# Altium integrated library Analog Devices Data Converters Analog-to-Digital Converters.IntLib: 2400 symbols (part 210 of 338)
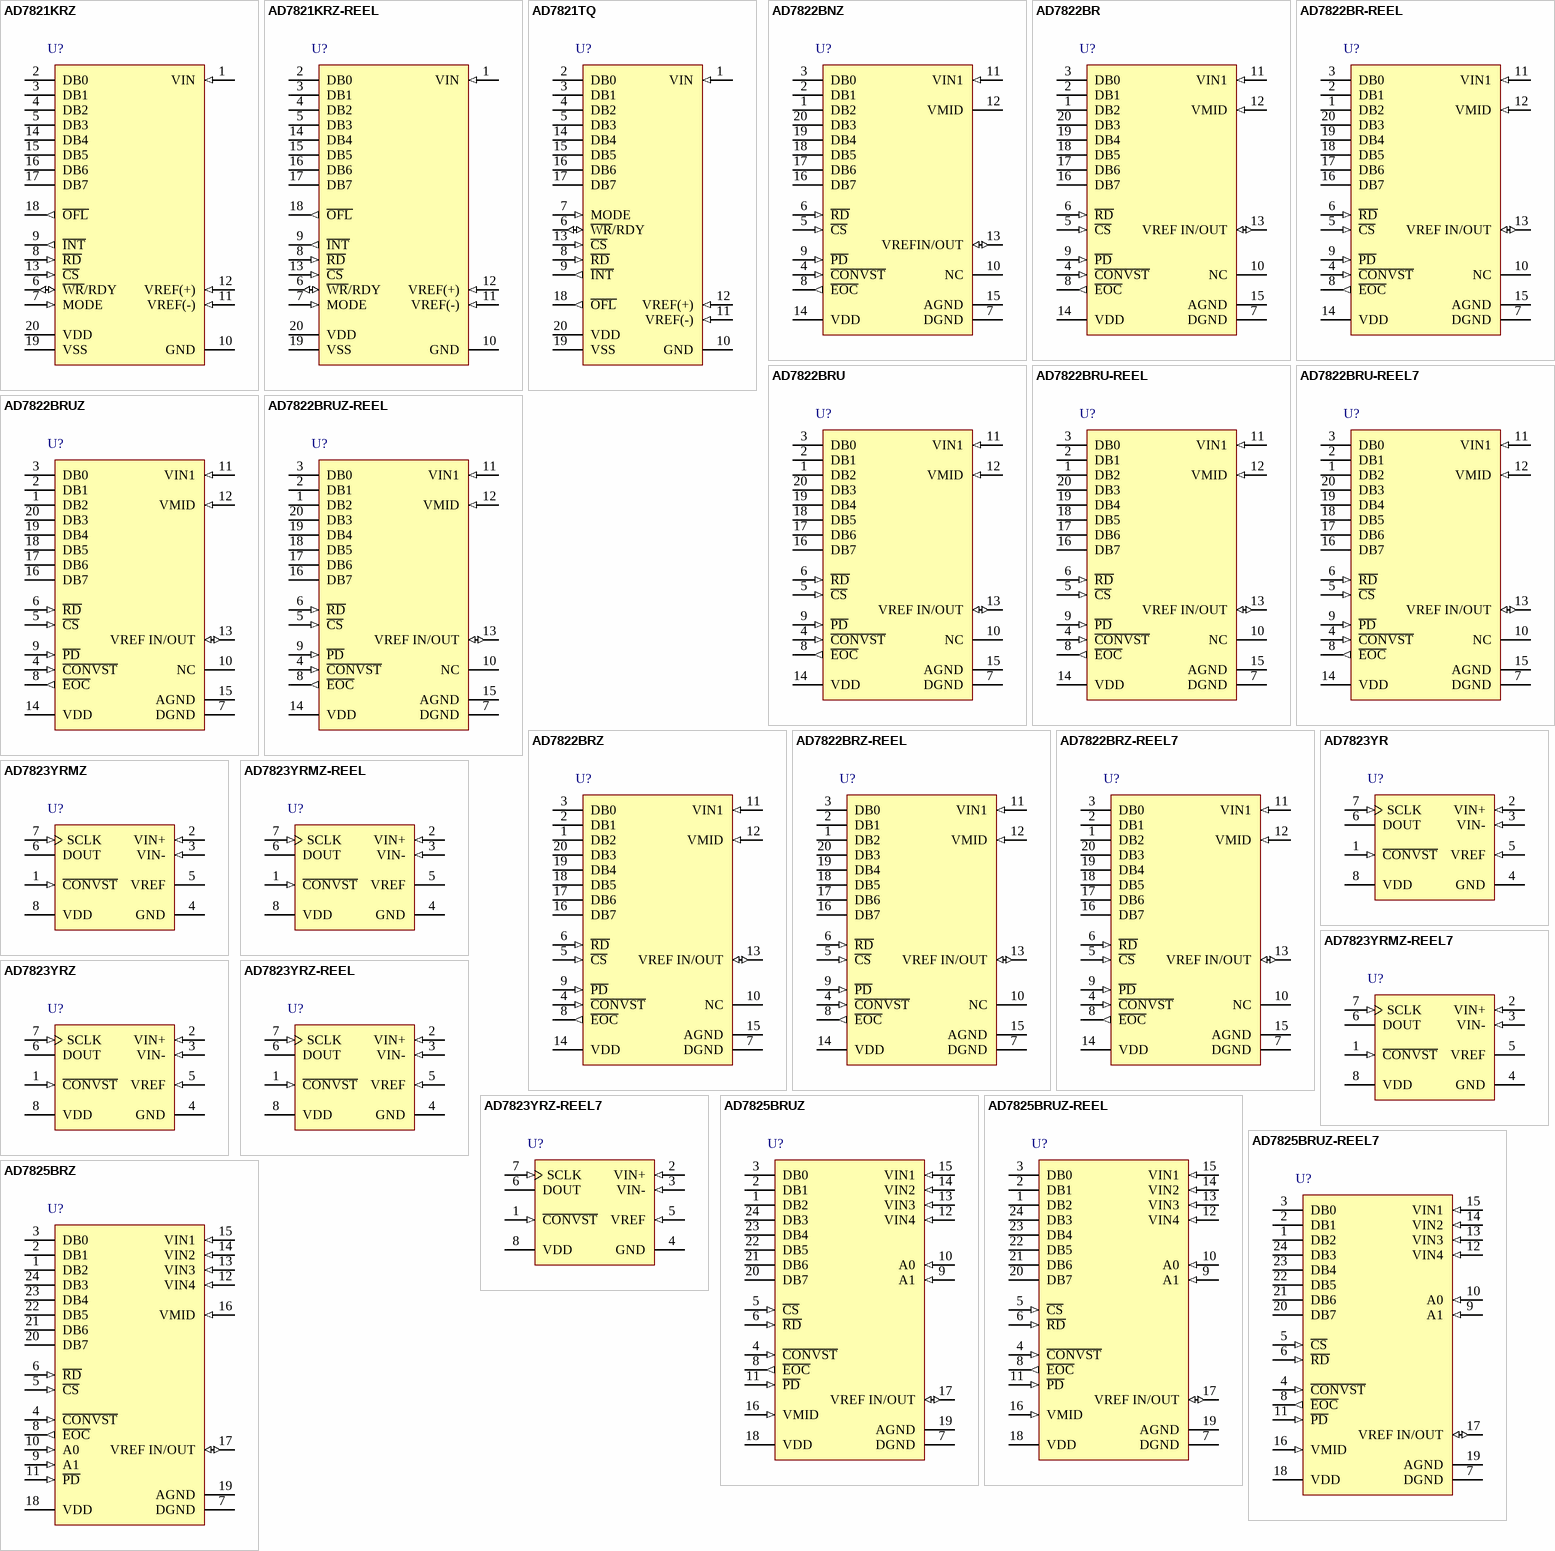
[diagram p370: symbols AD7821KRZ to AD7825BRZ]

## AD7822BRUZ
designator U?
Single 8-Bit Sampling Analog-to-Digital Converter with Parallel Interface, 3 V / 5 V, 2MSPS, -40 to +85 degC, RU-20, Pb-Free, Tube; Part Number: AD7822; Manufacturer: Analog Devices; Resolution (Bits): 8; Channels: 1; Throughput Rate (SPS): 2M; Interface: Par; DatasheetVersion: Rev.C; PackageVersion: 2000; PackageReference: RU-20; PackageDescription: 20-Lead Thin Shrink Small Outline Package [TSSOP]; RoHS: Y; Packing: Tube; Mounting Technology: Surface Mount; Code_JEDEC: MO-153AC; ComponentLink1Description: Manufacturer URL; ComponentLink1URL: http://www.analog.com/en/index.html; ComponentLink2Description: Datasheet; ComponentLink2URL: http://www.analog.com/static/imported-files/data_sheets/AD7822_7825_7829.pdf; ComponentLink3Description: Package Specification; ComponentLink3URL: http://www.analog.com/static/imported-files/packages/364515793657813558433715854054607941441RU20.pdf; ComponentLink4Description: Product URL; ComponentLink4URL: http://www.analog.com/en/analog-to-digital-converters/ad-converters/ad7822/products/product.html
footprint RU-20_N (TSOP, 20-Leads, Body 6.5x4.4mm, Pitch 0.65mm, IPC Medium Density)
footprint RU-20_L (TSOP, 20-Leads, Body 6.5x4.4mm, Pitch 0.65mm, IPC High Density)
footprint RU-20_M (TSOP, 20-Leads, Body 6.5x4.4mm, Pitch 0.65mm, IPC Low Density)
pins: 1 DB2 (hiz) "Data Output Lines. They are normally held in a high impedance state. Data is driven onto the data bus when both R\D\ and C\S\ go active low.", 2 DB1 (hiz) "Data Output Lines. They are normally held in a high impedance state. Data is driven onto the data bus when both R\D\ and C\S\ go active low.", 3 DB0 (hiz) "Data Output Lines. They are normally held in a high impedance state. Data is driven onto the data bus when both R\D\ and C\S\ go active low.", 4 ~{CONVST} (in) "Logic Input Signal. The convert start signal initiates an 8-bit analog-to-digital conversion on the falling edge of this signal. The falling edge of this signal places the track-and-hold in hold mode. The track-and-hold goes (See Datasheet)", 5 ~{CS} (in) "Logic Input Signal. The chip select signal is used to enable the parallel port of the AD7822/AD7825/AD7829. This is necessary if the ADC is sharing a common data bus with another device.", 6 ~{RD} (in) "Logic Input Signal. The read signal is used to take the output buffers out of their high impedance state and drive data onto the data bus. The signal is internally gated with the C\S\ signal. Both R\D\ and C\S\ must be logic (See Datasheet)", 7 DGND (power) "Digital Ground. Ground reference for digital circuitry.", 8 ~{EOC} (out) "Logic Output. The end-of-conversion signal indicates when a conversion has finished. The signal can be used to interrupt a microcontroller when a conversion has finished or latch data into a gate array (see the Parallel (See Datasheet)", 9 ~{PD} (in) "Logic Input. The power-down pin is present on the AD7822 and AD7825 only. Bringing the P\D\ pin low places the AD7822 and AD7825 in power-down mode. The ADCs power up when P\D\ is brought logic high again.", 10 NC "No connected.", 11 VIN1 (in) "Analog Input Channels. The AD7822 has a single input channel; the AD7825 and AD7829 have four and eight analog input channels, respectively. The inputs have an input span of 2.5 V and 2 V depending on the supply voltage (See Datasheet)", 12 VMID (in) "The VMID pin, if connected, is used to center the analog input span anywhere in the range of AGND to VDD (see the Analog Input section).", 13 VREF IN/OUT (io) "Analog Input and Output. An external reference can be connected to the AD7822/AD7825/AD7829 at this pin. The on-chip reference is also available at this pin. When using the internal reference, this pin can be left (See Datasheet)", 14 VDD (power) "Positive Supply Voltage, 3 V +/- 10% and 5 V +/- 10%.", 15 AGND (power) "Analog Ground. Ground reference for track-and-hold, comparators, reference circuit, and multiplexer.", 16 DB7 (hiz) "Data Output Lines. They are normally held in a high impedance state. Data is driven onto the data bus when both R\D\ and C\S\ go active low.", 17 DB6 (hiz) "Data Output Lines. They are normally held in a high impedance state. Data is driven onto the data bus when both R\D\ and C\S\ go active low.", 18 DB5 (hiz) "Data Output Lines. They are normally held in a high impedance state. Data is driven onto the data bus when both R\D\ and C\S\ go active low.", 19 DB4 (hiz) "Data Output Lines. They are normally held in a high impedance state. Data is driven onto the data bus when both R\D\ and C\S\ go active low.", 20 DB3 (hiz) "Data Output Lines. They are normally held in a high impedance state. Data is driven onto the data bus when both R\D\ and C\S\ go active low."

## AD7822BRUZ-REEL
designator U?
Single 8-Bit Sampling Analog-to-Digital Converter with Parallel Interface, 3 V / 5 V, 2MSPS, -40 to +85 degC, RU-20, Pb-Free, Reel; Part Number: AD7822; Manufacturer: Analog Devices; Resolution (Bits): 8; Channels: 1; Throughput Rate (SPS): 2M; Interface: Par; DatasheetVersion: Rev.C; PackageVersion: 2000; PackageReference: RU-20; PackageDescription: 20-Lead Thin Shrink Small Outline Package [TSSOP]; RoHS: Y; Packing: Reel; Mounting Technology: Surface Mount; Code_JEDEC: MO-153AC; ComponentLink1Description: Manufacturer URL; ComponentLink1URL: http://www.analog.com/en/index.html; ComponentLink2Description: Datasheet; ComponentLink2URL: http://www.analog.com/static/imported-files/data_sheets/AD7822_7825_7829.pdf; ComponentLink3Description: Package Specification; ComponentLink3URL: http://www.analog.com/static/imported-files/packages/364515793657813558433715854054607941441RU20.pdf; ComponentLink4Description: Product URL; ComponentLink4URL: http://www.analog.com/en/analog-to-digital-converters/ad-converters/ad7822/products/product.html
footprint RU-20_N (TSOP, 20-Leads, Body 6.5x4.4mm, Pitch 0.65mm, IPC Medium Density)
footprint RU-20_L (TSOP, 20-Leads, Body 6.5x4.4mm, Pitch 0.65mm, IPC High Density)
footprint RU-20_M (TSOP, 20-Leads, Body 6.5x4.4mm, Pitch 0.65mm, IPC Low Density)
pins: 1 DB2 (hiz) "Data Output Lines. They are normally held in a high impedance state. Data is driven onto the data bus when both R\D\ and C\S\ go active low.", 2 DB1 (hiz) "Data Output Lines. They are normally held in a high impedance state. Data is driven onto the data bus when both R\D\ and C\S\ go active low.", 3 DB0 (hiz) "Data Output Lines. They are normally held in a high impedance state. Data is driven onto the data bus when both R\D\ and C\S\ go active low.", 4 ~{CONVST} (in) "Logic Input Signal. The convert start signal initiates an 8-bit analog-to-digital conversion on the falling edge of this signal. The falling edge of this signal places the track-and-hold in hold mode. The track-and-hold goes (See Datasheet)", 5 ~{CS} (in) "Logic Input Signal. The chip select signal is used to enable the parallel port of the AD7822/AD7825/AD7829. This is necessary if the ADC is sharing a common data bus with another device.", 6 ~{RD} (in) "Logic Input Signal. The read signal is used to take the output buffers out of their high impedance state and drive data onto the data bus. The signal is internally gated with the C\S\ signal. Both R\D\ and C\S\ must be logic (See Datasheet)", 7 DGND (power) "Digital Ground. Ground reference for digital circuitry.", 8 ~{EOC} (out) "Logic Output. The end-of-conversion signal indicates when a conversion has finished. The signal can be used to interrupt a microcontroller when a conversion has finished or latch data into a gate array (see the Parallel (See Datasheet)", 9 ~{PD} (in) "Logic Input. The power-down pin is present on the AD7822 and AD7825 only. Bringing the P\D\ pin low places the AD7822 and AD7825 in power-down mode. The ADCs power up when P\D\ is brought logic high again.", 10 NC "No connected.", 11 VIN1 (in) "Analog Input Channels. The AD7822 has a single input channel; the AD7825 and AD7829 have four and eight analog input channels, respectively. The inputs have an input span of 2.5 V and 2 V depending on the supply voltage (See Datasheet)", 12 VMID (in) "The VMID pin, if connected, is used to center the analog input span anywhere in the range of AGND to VDD (see the Analog Input section).", 13 VREF IN/OUT (io) "Analog Input and Output. An external reference can be connected to the AD7822/AD7825/AD7829 at this pin. The on-chip reference is also available at this pin. When using the internal reference, this pin can be left (See Datasheet)", 14 VDD (power) "Positive Supply Voltage, 3 V +/- 10% and 5 V +/- 10%.", 15 AGND (power) "Analog Ground. Ground reference for track-and-hold, comparators, reference circuit, and multiplexer.", 16 DB7 (hiz) "Data Output Lines. They are normally held in a high impedance state. Data is driven onto the data bus when both R\D\ and C\S\ go active low.", 17 DB6 (hiz) "Data Output Lines. They are normally held in a high impedance state. Data is driven onto the data bus when both R\D\ and C\S\ go active low.", 18 DB5 (hiz) "Data Output Lines. They are normally held in a high impedance state. Data is driven onto the data bus when both R\D\ and C\S\ go active low.", 19 DB4 (hiz) "Data Output Lines. They are normally held in a high impedance state. Data is driven onto the data bus when both R\D\ and C\S\ go active low.", 20 DB3 (hiz) "Data Output Lines. They are normally held in a high impedance state. Data is driven onto the data bus when both R\D\ and C\S\ go active low."

## AD7822BRZ
designator U?
Single 8-Bit Sampling Analog-to-Digital Converter with Parallel Interface, 3 V / 5 V, 2MSPS, -40 to +85 degC, RW-20, Pb-Free, Tube; Part Number: AD7822; Manufacturer: Analog Devices; Resolution (Bits): 8; Channels: 1; Throughput Rate (SPS): 2M; Interface: Par; DatasheetVersion: Rev.C; PackageVersion: 060706-A; PackageReference: RW-20; PackageDescription: 20-Lead Standard Small Outline Package [SOIC_W] Wide Body; RoHS: Y; Packing: Tube; Mounting Technology: Surface Mount; Code_JEDEC: MS-013-AC; ComponentLink1Description: Manufacturer URL; ComponentLink1URL: http://www.analog.com/en/index.html; ComponentLink2Description: Datasheet; ComponentLink2URL: http://www.analog.com/static/imported-files/data_sheets/AD7822_7825_7829.pdf; ComponentLink3Description: Package Specification; ComponentLink3URL: http://www.analog.com/static/imported-files/packages/233848RW_20.pdf; ComponentLink4Description: Product URL; ComponentLink4URL: http://www.analog.com/en/analog-to-digital-converters/ad-converters/ad7822/products/product.html
footprint RW-20_N (SOIC, 20-Leads, Body 12.8x7.5mm, Pitch 1.27mm, IPC Medium Density)
footprint RW-20_L (SOIC, 20-Leads, Body 12.8x7.5mm, Pitch 1.27mm, IPC High Density)
footprint RW-20_M (SOIC, 20-Leads, Body 12.8x7.5mm, Pitch 1.27mm, IPC Low Density)
pins: 1 DB2 (hiz) "Data Output Lines. They are normally held in a high impedance state. Data is driven onto the data bus when both R\D\ and C\S\.", 2 DB1 (hiz) "Data Output Lines. They are normally held in a high impedance state. Data is driven onto the data bus when both R\D\ and C\S\.", 3 DB0 (hiz) "Data Output Lines. They are normally held in a high impedance state. Data is driven onto the data bus when both R\D\ and C\S\.", 4 ~{CONVST} (in) "Logic Input Signal. The convert start signal initiates an 8-bit analog-to-digital conversion on the falling edge of this signal. The falling edge of this signal places the track-and-hold in hold mode. The track-and-hold goes (See Datasheet)", 5 ~{CS} (in) "Logic Input Signal. The chip select signal is used to enable the parallel port of the AD7822/AD7825/AD7829. This is necessary if the ADC is sharing a common data bus with another device.", 6 ~{RD} (in) "Logic Input Signal. The read signal is used to take the output buffers out of their high impedance state and drive data onto the data bus. The signal is internally gated with the C\S\  signal. Both R\D\  and C\S\  must be (See Datasheet)", 7 DGND (power) "Digital Ground. Ground reference for digital circuitry.", 8 ~{EOC} (out) "Logic Output. The end-of-conversion signal indicates when a conversion has finished. The signal can be used to interrupt a microcontroller when a conversion has finished or latch data into a gate array (see the Parallel (See Datasheet)", 9 ~{PD} (in) "Logic Input. The power-down pin is present on the AD7822 and AD7825 only. Bringing the PD pin low places the AD7822 and AD7825 in power-down mode. The ADCs power up when PD is brought logic high again.", 10 NC "no connect", 11 VIN1 (in) "Analog Input Channels. The AD7822 has a single input channel; the AD7825 and AD7829 have four and eight analog input channels, respectively. The inputs have an input span of 2.5 V and 2 V depending on the supply voltage (See Datasheet)", 12 VMID (in) "The VMID pin, if connected, is used to center the analog input span anywhere in the range of AGND to VDD (see the Analog Input section).", 13 VREF IN/OUT (io) "Analog Input and Output. An external reference can be connected to the AD7822/AD7825/AD7829 at this pin. The on-chip reference is also available at this pin. When using the internal reference, this pin can be left (See Datasheet)", 14 VDD (power) "Positive Supply Voltage, 3 V +/- 10% and 5 V +/- 10%.", 15 AGND (power) "Analog Ground. Ground reference for track-and-hold, comparators, reference circuit, and multiplexer.", 16 DB7 (hiz) "Data Output Lines. They are normally held in a high impedance state. Data is driven onto the data bus when both R\D\ and C\S\.", 17 DB6 (hiz) "Data Output Lines. They are normally held in a high impedance state. Data is driven onto the data bus when both R\D\ and C\S\.", 18 DB5 (hiz) "Data Output Lines. They are normally held in a high impedance state. Data is driven onto the data bus when both R\D\ and C\S\.", 19 DB4 (hiz) "Data Output Lines. They are normally held in a high impedance state. Data is driven onto the data bus when both R\D\ and C\S\.", 20 DB3 (hiz) "Data Output Lines. They are normally held in a high impedance state. Data is driven onto the data bus when both R\D\ and C\S\."